# EAGLE library part LTC4413-2 (library linear-technology)
2-Channel Ideal OR'ing Diode Dual 2.6A, 2.5V to 5.5V
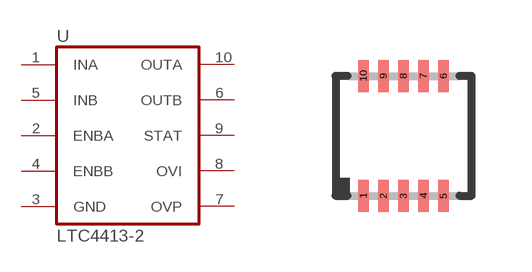
[diagram p43: symbol with the pads of DFN10-3X3; footprint DFN10-3X3]

Designator prefix U

## LTC4413-2  [DFN10-3X3]
1  INA  in
2  ENBA  in
3  GND  pwr
4  ENBB  in
5  INB  in
6  OUTB  out
7  OVP  out
8  OVI  in
9  STAT  out
10  OUTA  out

## Footprint DFN10-3X3 (pad centres in mm)
DFN-10 (3mmx3mm)
smd 0.265 x 0.8: 1 -1,-1.5; 2 -0.5,-1.5; 3 0,-1.5; 4 0.5,-1.5; 5 1,-1.5; 6 1,1.5; 7 0.5,1.5; 8 0,1.5; 9 -0.5,1.5; 10 -1,1.5